# EAGLE library part HV9150K6-G (library Micromirror_Ampli_PCB)
Switching controllers HV Output Hysteretic DC/DC Controller, Microchip, case QFN16, Mouser : 689-HV9150K6-G
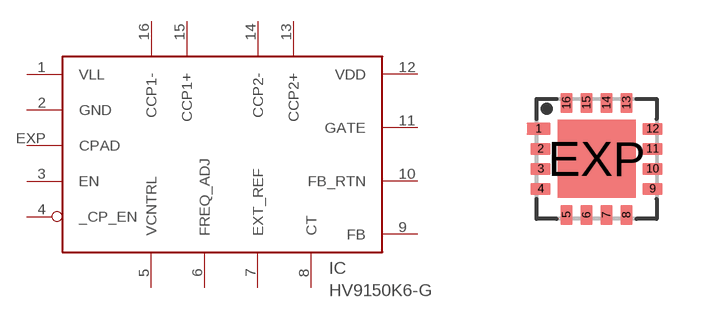
[diagram p5: symbol with the pads of QFN16; footprint QFN16]

Designator prefix IC

## HV9150K6-G (CASE: QFN16; DIGI-KEY: HV9150K6-GCT-ND; DUTY_CYCLE-MAX: 87.5 %; FALL_TIME: 12 ns; INPUT_VOLTAGE: 2.7V; ISOLATION: Non-Isolated; MANUFACTURER: Microchip; MOUSER: 689-HV9150K6-G; NUMBER_OF_OUTPUT: 1; OPERATING-TEMPERATURE: -25°C ~ 125°C (TJ); OPERATING_SUPPLY_CURRENT: 2 uA; OPERATING_SUPPLY_VOLTAGE: 5V; OUTPUT_CURRENT: 100mA; OUT_POWER: 3W; OUT_TYPE: Adjustable; OUT_VOLTAGE: 500V; RISE_TIME: 36nS; SWITCHING_FREQUENCY: 400 kHz)  [QFN16]
1  VLL  pas
2  GND  pwr
3  EN
4  _CP_EN
5  VCNTRL
6  FREQ_ADJ
7  EXT_REF
8  CT  pas
9  FB
10  FB_RTN
11  GATE
12  VDD  pas
13  CCP2+  pas
14  CCP2-  pas
15  CCP1+  pas
16  CCP1-  pas
EXP  CPAD  pas

## Footprint QFN16 (pad centres in mm)
Package/Case QFN16, package dimensions : L x p x h / 3 x 3 x 0,9mm
smd 0.6 x 0.3: 1 -1.45,0.75
smd 0.5 x 0.3: 2 -1.4,0.25; 3 -1.4,-0.25; 4 -1.4,-0.75; 9 1.4,-0.75; 10 1.4,-0.25; 11 1.4,0.25; 12 1.4,0.75
smd 0.3 x 0.5: 5 -0.75,-1.4; 6 -0.25,-1.4; 7 0.25,-1.4; 8 0.75,-1.4; 13 0.75,1.4; 14 0.25,1.4; 15 -0.25,1.4; 16 -0.75,1.4
smd 1.95 x 1.95: EXP 0,0